# EAGLE library part M-09607_ESP-WROOM-02 (library Akizuki)
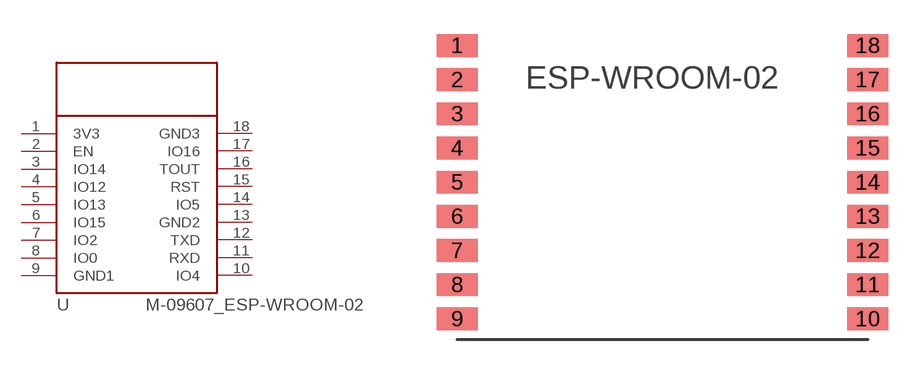
[diagram p31: symbol with the pads of ESP-WROOM-02; footprint ESP-WROOM-02]

Designator prefix U

## M-09607_ESP-WROOM-02  [ESP-WROOM-02]
1  3V3
2  EN
3  IO14
4  IO12
5  IO13
6  IO15
7  IO2
8  IO0
9  GND1
10  IO4
11  RXD
12  TXD
13  GND2
14  IO5
15  RST
16  TOUT
17  IO16
18  GND3

## Footprint ESP-WROOM-02 (pad centres in mm)
smd 1.8 x 1: 1 0,12.9; 2 0,11.4; 3 0,9.9; 4 0,8.4; 5 0,6.9; 6 0,5.4; 7 0,3.9; 8 0,2.4; 9 0,0.9; 10 18,0.9; 11 18,2.4; 12 18,3.9; 13 18,5.4; 14 18,6.9; 15 18,8.4; 16 18,9.9; 17 18,11.4; 18 18,12.9